# Altium schematic symbol library accelerometer.SchLib: 2 symbols
Pins are listed as number, name and electrical type; pins without a type are passive.

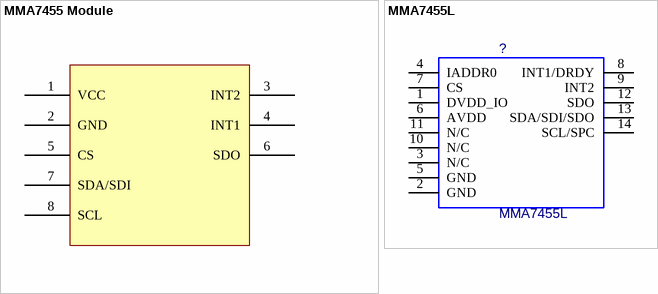
[diagram p0: symbols MMA7455 Module to MMA7455L]

## MMA7455 Module
designator D?, comment MMA7455Module
footprint MMA7455Module
pins: 1 VCC (power), 2 GND, 3 INT2, 4 INT1, 5 CS, 6 SDO, 7 SDA/SDI, 8 SCL

## MMA7455L
designator ?
Value: *
footprint LGA14
pins: 1 DVDD_IO, 2 GND, 3 N/C, 4 IADDR0, 5 GND, 6 AVDD, 7 CS, 8 INT1/DRDY, 9 INT2, 10 N/C, 11 N/C, 12 SDO, 13 SDA/SDI/SDO, 14 SCL/SPC